# EAGLE library part 0527451033 (library SamacSys_Parts)
CONN FFC TOP 10POS 0.50MM R/A Source: Datasheet <https://www.molex.com/pdm_docs/sd/527451033_sd.pdf>
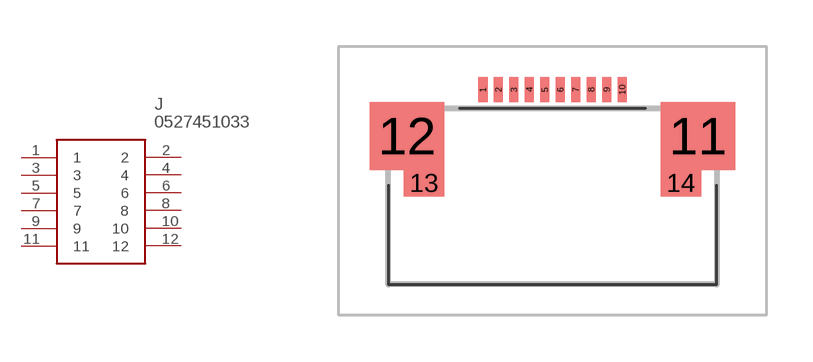
[diagram p22: symbol with the pads of 0527451033; footprint 0527451033]

Designator prefix J

## 0527451033 (DESCRIPTION: CONN FFC TOP 10POS 0.50MM R/A; HEIGHT: mm; MANUFACTURER_NAME: Molex; MANUFACTURER_PART_NUMBER: 0527451033)  [0527451033]
1  1
2  2
3  3
4  4
5  5
6  6
7  7
8  8
9  9
10  10
11  11
12  12

## Footprint 0527451033 (pad centres in mm)
0527451033
smd 0.3 x 0.8: 1 -2.25,3.15; 2 -1.75,3.15; 3 -1.25,3.15; 4 -0.75,3.15; 5 -0.25,3.15; 6 0.25,3.15; 7 0.75,3.15; 8 1.25,3.15; 9 1.75,3.15; 10 2.25,3.15
smd 2.4 x 2.2: 11 4.7,1.65; 12 -4.7,1.65
smd 1.3 x 0.85: 13 -4.15,0.125; 14 4.15,0.125